# Altium footprint library FR207.PcbLib: 1 footprints
Each footprint in its own frame and in the unit in brackets; x right, y up, seen from the top. Pads: shape width x height; smd on the part's side, far side on the other; paste and mask are expansions set on the pad; w line width, h text height; cw(c..) or ccw(c..) is an arc to the next point about the centre after c.
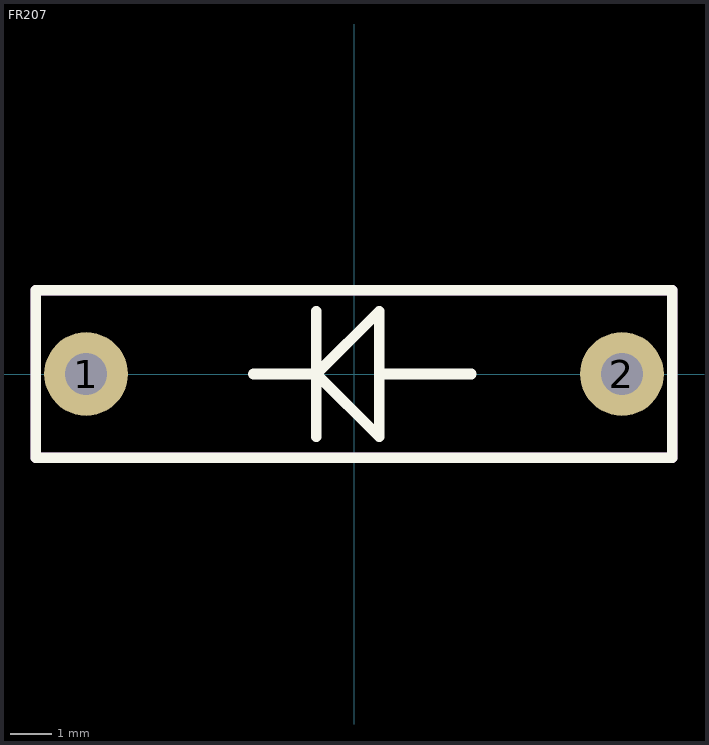
[diagram p0: the footprint, top view; thin cyan lines are the x and y axes]

## FR207 [mm]
pads (2):
  round 2 hole 1: 1(-6.4,0) 2(6.4,0)
Top Overlay:
  lines w0.254: -2.4,0 -0.9,0 ; -0.9,-1.5 -0.9,1.5 ; 0.6,0 2.8,0 ; -0.9,0 0.6,-1.5 0.6,1.5 -0.9,0 ; -7.6,-2 7.6,-2 7.6,2 -7.6,2 -7.6,-2
Top Assembly:
  lines w0.254: -7.6,-2 -7.6,2 7.6,2 7.6,-2 -7.6,-2
  text "'.Designator'" at 0,0 h0.7
3D body "User Library-DO-15 12_7mm.STEP": height 4.5, standoff -3, extent -6.78,-2 6.78,2